# Altium schematic symbol library USB Type C.SchLib: 1 symbol
Pins are listed as number, name and electrical type; pins without a type are passive.

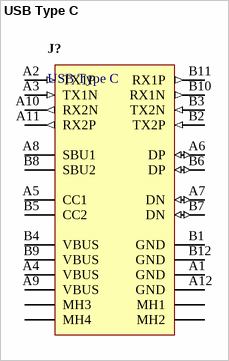
[diagram p0: symbol USB Type C]

## USB Type C
designator J?
pins: A1 GND, A2 TX1P (in), A3 TX1N (in), A4 VBUS, A5 CC1, A6 DP (io), A7 DN (io), A8 SBU1, A9 VBUS, A10 RX2N (out), A11 RX2P (out), A12 GND, B1 GND, B2 TX2P (in), B3 TX2N (in), B4 VBUS, B5 CC2, B6 DP (io), B7 DN (io), B8 SBU2, B9 VBUS, B10 RX1N (out), B11 RX1P (out), B12 GND, MH1, MH2, MH3, MH4